# Altium schematic symbol library PMIC.SchLib: 17 symbols
Pins are listed as number, name and electrical type; pins without a type are passive.

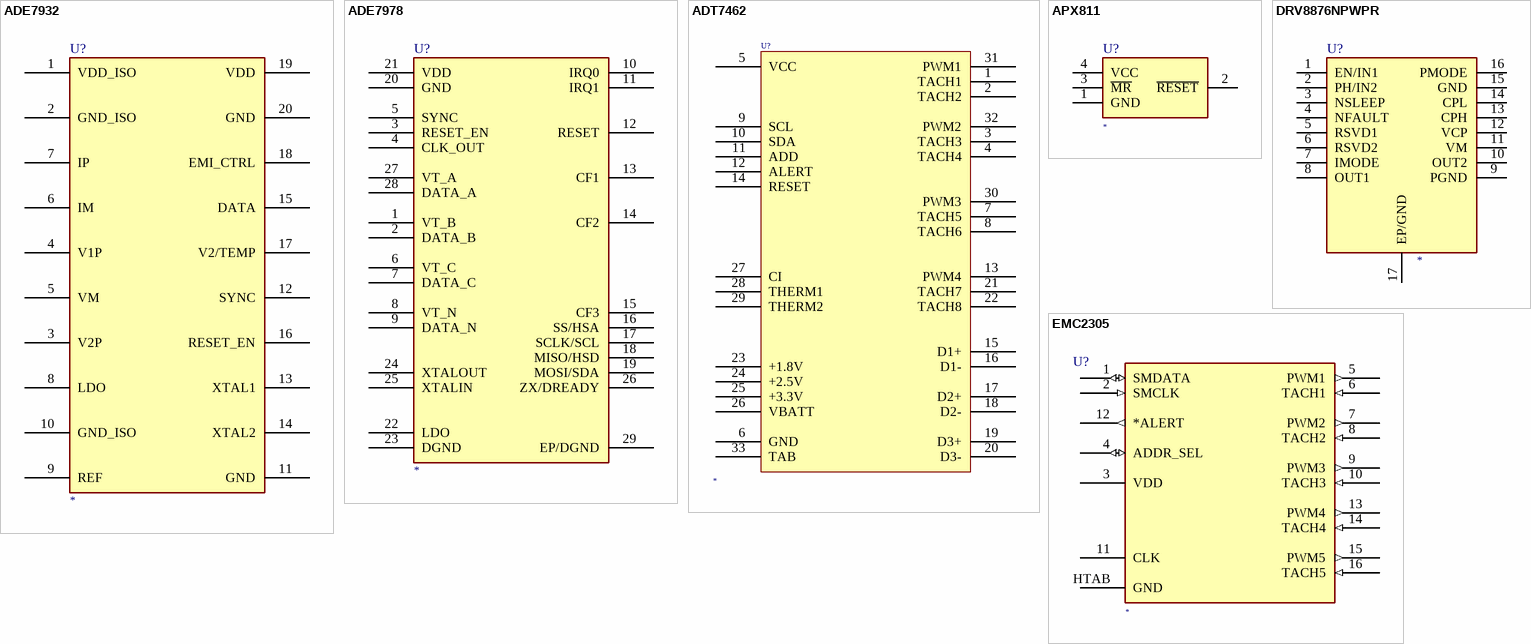
[diagram p0: symbols ADE7932 to EMC2305]

## ADE7932
designator U?
IC ADC/ENERGY MEAS 20SOIC; Manufacturer Part Number: *
pins: 1 VDD_ISO, 2 GND_ISO, 3 V2P, 4 V1P, 5 VM, 6 IM, 7 IP, 8 LDO, 9 REF, 10 GND_ISO, 11 GND, 12 SYNC, 13 XTAL1, 14 XTAL2, 15 DATA, 16 RESET_EN, 17 V2/TEMP, 18 EMI_CTRL, 19 VDD, 20 GND

## ADE7978
designator U?
IC ENERGY METERING 3PH 28LFCSP; Manufacturer Part Number: *
pins: 1 VT_B, 2 DATA_B, 3 RESET_EN, 4 CLK_OUT, 5 SYNC, 6 VT_C, 7 DATA_C, 8 VT_N, 9 DATA_N, 10 IRQ0, 11 IRQ1, 12 RESET, 13 CF1, 14 CF2, 15 CF3, 16 SS/HSA, 17 SCLK/SCL, 18 MISO/HSD, 19 MOSI/SDA, 20 GND, 21 VDD, 22 LDO, 23 DGND, 24 XTALOUT, 25 XTALIN, 26 ZX/DREADY, 27 VT_A, 28 DATA_A, 29 EP/DGND

## ADT7462
designator U?
32-VFQFN; Manufacturer Part Number: *
pins: 1 TACH1, 2 TACH2, 3 TACH3, 4 TACH4, 5 VCC, 6 GND, 7 TACH5, 8 TACH6, 9 SCL, 10 SDA, 11 ADD, 12 ALERT, 13 PWM4, 14 RESET, 15 D1+, 16 D1-, 17 D2+, 18 D2-, 19 D3+, 20 D3-, 21 TACH7, 22 TACH8, 23 +1.8V, 24 +2.5V, 25 +3.3V, 26 VBATT, 27 CI, 28 THERM1, 29 THERM2, 30 PWM3, 31 PWM1, 32 PWM2, 33 TAB

## APX811
designator U?
RESET SUPERVISOR; Manufacturer Part Number: *
pins: 1 GND, 2 ~{RESET}, 3 ~{MR}, 4 VCC

## DRV8876NPWPR
designator U?
H-Bridge Brushed DC Motor Driver 37-V, 3.5-A 16-HTSSOP; Manufacturer Part Number: *
pins: 1 EN/IN1, 2 PH/IN2, 3 NSLEEP, 4 NFAULT, 5 RSVD1, 6 RSVD2, 7 IMODE, 8 OUT1, 9 PGND, 10 OUT2, 11 VM, 12 VCP, 13 CPH, 14 CPL, 15 GND, 16 PMODE, 17 EP/GND

## EMC2305
designator U?
Fan Controller; Manufacturer Part Number: *
pins: 1 SMDATA (io), 2 SMCLK (in), 3 VDD (power), 4 ADDR_SEL (io), 5 PWM1 (out), 6 TACH1 (in), 7 PWM2 (out), 8 TACH2 (in), 9 PWM3 (out), 10 TACH3 (in), 11 CLK, 12 *ALERT (out), 13 PWM4 (out), 14 TACH4 (in), 15 PWM5 (out), 16 TACH5 (in), HTAB GND (power)

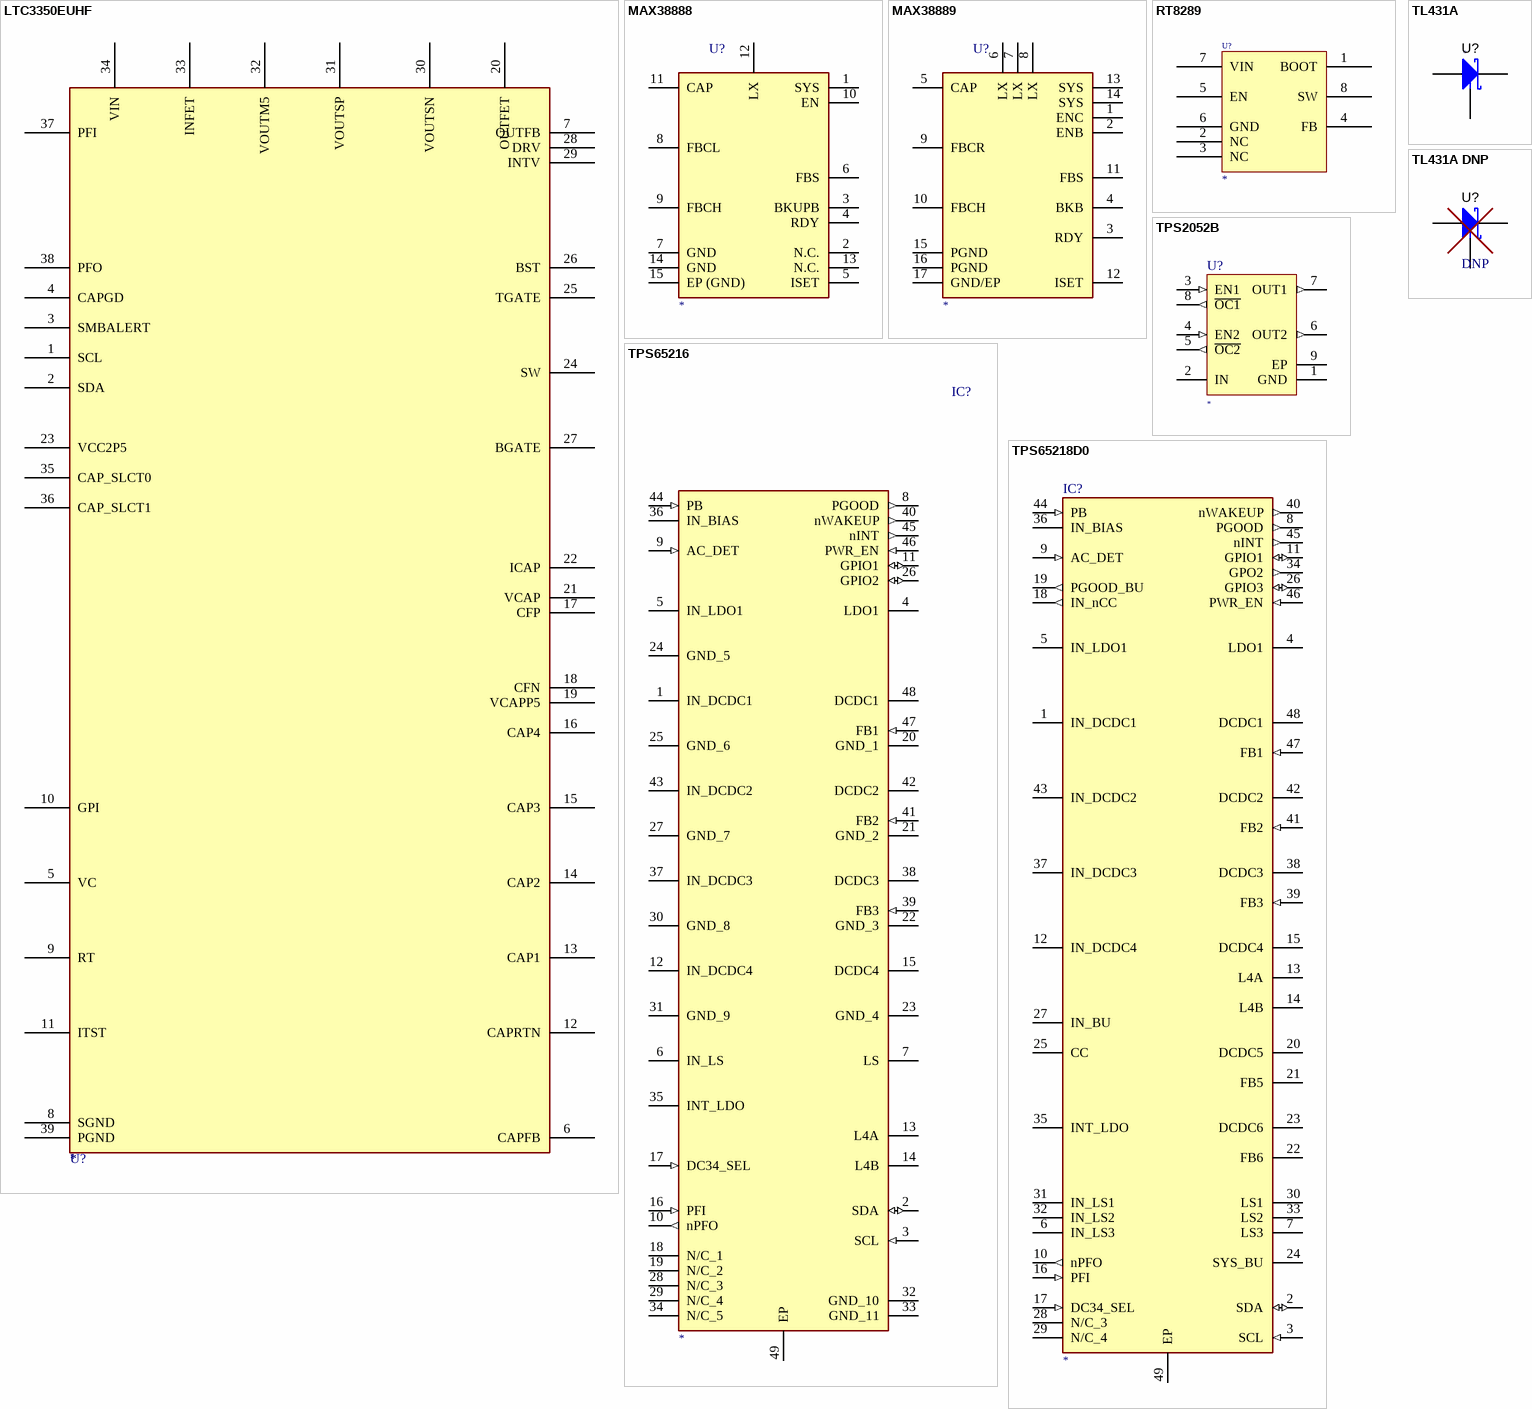
[diagram p1: symbols LTC3350EUHF to TPS65218D0]

## LTC3350EUHF
designator U?
BACKUP SUPERCAP CONTROLLER/CHARGER; Manufacturer Part Number: *
pins: 1 SCL, 2 SDA, 3 SMBALERT, 4 CAPGD, 5 VC, 6 CAPFB, 7 OUTFB, 8 SGND, 9 RT, 10 GPI, 11 ITST, 12 CAPRTN, 13 CAP1, 14 CAP2, 15 CAP3, 16 CAP4, 17 CFP, 18 CFN, 19 VCAPP5, 20 OUTFET, 21 VCAP, 22 ICAP, 23 VCC2P5, 24 SW, 25 TGATE, 26 BST, 27 BGATE, 28 DRV, 29 INTV, 30 VOUTSN, 31 VOUTSP, 32 VOUTM5, 33 INFET, 34 VIN, 35 CAP_SLCT0, 36 CAP_SLCT1, 37 PFI, 38 PFO, 39 PGND

## MAX38888
designator U?
Supercap Backup IC 2.5A; Manufacturer Part Number: *
pins: 1 SYS, 2 N.C., 3 BKUPB, 4 RDY, 5 ISET, 6 FBS, 7 GND, 8 FBCL, 9 FBCH, 10 EN, 11 CAP, 12 LX, 13 N.C., 14 GND, 15 EP (GND)

## MAX38889
designator U?
Supercap Backup IC 3A; Manufacturer Part Number: *
pins: 1 ENC, 2 ENB, 3 RDY, 4 BKB, 5 CAP, 6 LX, 7 LX, 8 LX, 9 FBCR, 10 FBCH, 11 FBS, 12 ISET, 13 SYS, 14 SYS, 15 PGND, 16 PGND, 17 GND/EP

## RT8289
designator U?, comment RT8289GSP  (value not drawn)
REG BUCK ADJUSTABLE 5A; Manufacturer Part Number: *
pins: 1 BOOT, 2 NC, 3 NC, 4 FB, 5 EN, 6 GND, 7 VIN, 8 SW

## TL431A
designator U?
VREF SHUNT 36V 1%; Manufacturer Part Number: *
pins: 1 REF, 2 K, 3 A

## TL431A DNP
designator U?, comment DNP
pins: 1 K, 2 REF, 3 A

## TPS2052B
designator U?
PWR SWITCH N-CHAN 1:2; Manufacturer Part Number: *
pins: 1 GND (power) "Ground", 2 IN "Input voltage", 3 EN1 (in) "Enable input, logic high turns on power switch IN-OUT1", 4 EN2 (in) "Enable input, logic high turns on power switch IN-OUT2", 5 ~{OC2} (out) "Overcurrent, open-drain output, active low, IN-OUT2", 6 OUT2 (out) "Power-switch output, IN-OUT2", 7 OUT1 (out) "Power-switch output, IN-OUT1", 8 ~{OC1} (out) "Overcurrent, open-drain output, active low, IN-OUT1", 9 EP (power) "Internally connected to GND; used to heat-sink the part to the circuit board traces. Should be connected to GND pin."

## TPS65216
designator IC?
PMIC TPS65216; Manufacturer Part Number: *
pins: 1 IN_DCDC1 (power), 2 SDA (io), 3 SCL (in), 4 LDO1 (power), 5 IN_LDO1 (power), 6 IN_LS (power), 7 LS (power), 8 PGOOD (out), 9 AC_DET (in), 10 nPFO (out), 11 GPIO1 (io), 12 IN_DCDC4 (power), 13 L4A (power), 14 L4B (power), 15 DCDC4, 16 PFI (in), 17 DC34_SEL (in), 18 N/C_1, 19 N/C_2, 20 GND_1 (power), 21 GND_2 (power), 22 GND_3 (power), 23 GND_4 (power), 24 GND_5 (power), 25 GND_6 (power), 26 GPIO2 (io), 27 GND_7 (power), 28 N/C_3, 29 N/C_4, 30 GND_8 (power), 31 GND_9 (power), 32 GND_10 (power), 33 GND_11 (power), 34 N/C_5, 35 INT_LDO (power), 36 IN_BIAS (power), 37 IN_DCDC3 (power), 38 DCDC3, 39 FB3 (in), 40 nWAKEUP (out), 41 FB2 (in), 42 DCDC2, 43 IN_DCDC2 (power), 44 PB (in), 45 nINT (out), 46 PWR_EN (in), 47 FB1 (in), 48 DCDC1, 49 EP

## TPS65218D0
designator IC?
PMIC TPS65218D0; Manufacturer Part Number: *
pins: 1 IN_DCDC1 (power), 2 SDA (io), 3 SCL (in), 4 LDO1 (power), 5 IN_LDO1 (power), 6 IN_LS3 (power), 7 LS3 (power), 8 PGOOD (out), 9 AC_DET (in), 10 nPFO (out), 11 GPIO1 (io), 12 IN_DCDC4 (power), 13 L4A (power), 14 L4B (power), 15 DCDC4 (power), 16 PFI (in), 17 DC34_SEL (in), 18 IN_nCC (out), 19 PGOOD_BU (out), 20 DCDC5 (power), 21 FB5 (power), 22 FB6 (power), 23 DCDC6 (power), 24 SYS_BU (power), 25 CC (power), 26 GPIO3 (io), 27 IN_BU (power), 28 N/C_3, 29 N/C_4, 30 LS1 (power), 31 IN_LS1 (power), 32 IN_LS2 (power), 33 LS2 (power), 34 GPO2 (out), 35 INT_LDO (power), 36 IN_BIAS (power), 37 IN_DCDC3 (power), 38 DCDC3 (power), 39 FB3 (in), 40 nWAKEUP (out), 41 FB2 (in), 42 DCDC2 (power), 43 IN_DCDC2 (power), 44 PB (in), 45 nINT (out), 46 PWR_EN (in), 47 FB1 (in), 48 DCDC1 (power), 49 EP

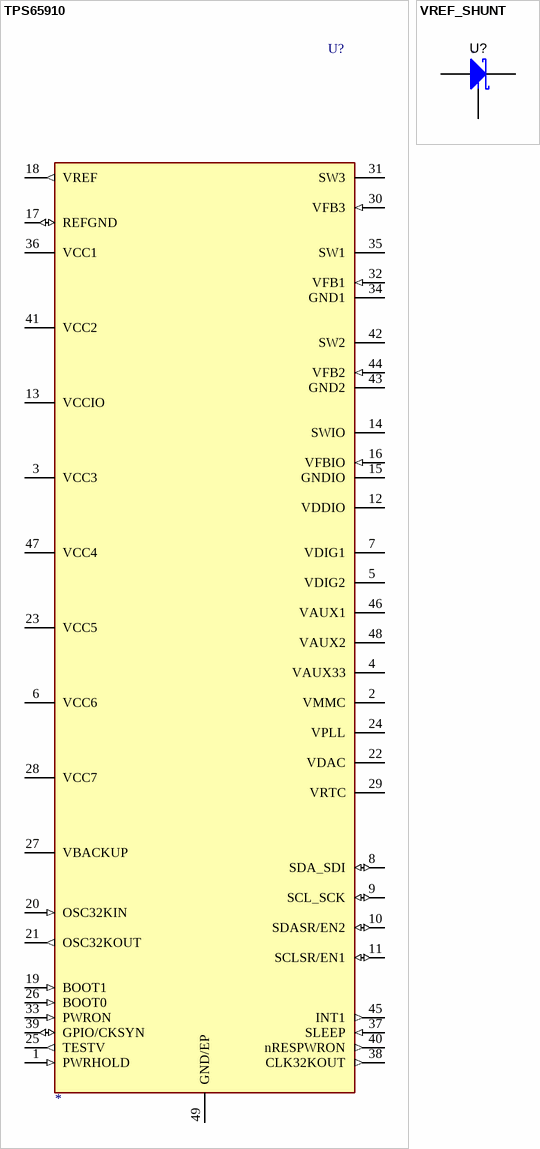
[diagram p2: symbols TPS65910 to VREF_SHUNT]

## TPS65910
designator U?
PMIC TPS65910; Manufacturer Part Number: *
pins: 1 PWRHOLD (in), 2 VMMC (power), 3 VCC3 (power), 4 VAUX33 (power), 5 VDIG2 (power), 6 VCC6 (power), 7 VDIG1 (power), 8 SDA_SDI (io), 9 SCL_SCK (io), 10 SDASR/EN2 (io), 11 SCLSR/EN1 (io), 12 VDDIO (power), 13 VCCIO (power), 14 SWIO (power), 15 GNDIO (power), 16 VFBIO (in), 17 REFGND (io), 18 VREF (out), 19 BOOT1 (in), 20 OSC32KIN (in), 21 OSC32KOUT (out), 22 VDAC (power), 23 VCC5 (power), 24 VPLL (power), 25 TESTV (out), 26 BOOT0 (in), 27 VBACKUP (power), 28 VCC7 (power), 29 VRTC (power), 30 VFB3 (in), 31 SW3 (power), 32 VFB1 (in), 33 PWRON (in), 34 GND1 (power), 35 SW1 (power), 36 VCC1 (power), 37 SLEEP (in), 38 CLK32KOUT (out), 39 GPIO/CKSYN (io), 40 nRESPWRON (out), 41 VCC2 (power), 42 SW2 (power), 43 GND2 (power), 44 VFB2 (in), 45 INT1 (out), 46 VAUX1 (power), 47 VCC4 (power), 48 VAUX2 (power), 49 GND/EP (power)

## VREF_SHUNT
designator U?
VREF SHUNT; Manufacturer Part Number: *
pins: 1 K, 2 A, 3 REF